# Altium footprint library PCB_Library.PcbLib: 2 footprints
Each footprint in its own frame and in the unit in brackets; x right, y up, seen from the top. Pads: shape width x height; smd on the part's side, far side on the other; paste and mask are expansions set on the pad; w line width, h text height; cw(c..) or ccw(c..) is an arc to the next point about the centre after c.
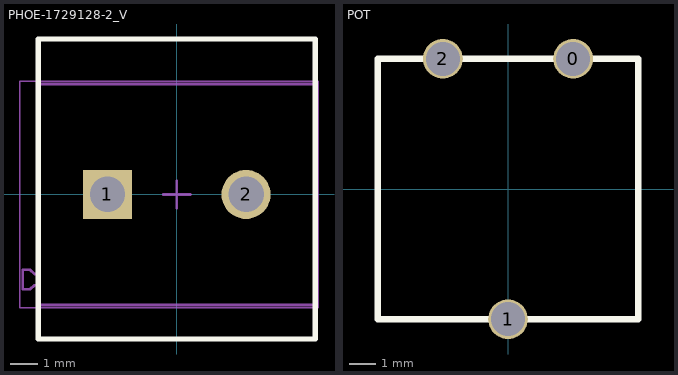
[diagram p0: the footprints below, top view; thin cyan lines are the x and y axes]

## PHOE-1729128-2_V [mm] "Receptacle, 2-Leads, Body 8.1x10.16mm, Pitch 5.08mm"
height 10.013
pads (2):
  rect 1.8x1.8 hole 1.3: 1(-2.54,0)
  round 1.8 hole 1.3: 2(2.54,0)
Top Overlay:
  lines w0.2: -5.08,-5.3 -5.08,5.7 5.08,5.7 5.08,-5.3 -5.08,-5.3
Mechanical 13:
  lines w0.1: -5.08,-3.327 -5.209,-3.327 -5.387,-3.477 -5.65,-3.477 -5.65,-2.763 ; -5.08,-2.913 -5.209,-2.913 -5.387,-2.763 -5.65,-2.763 ; -5.65,-2.763 -5.65,-2.763 ; -5.08,-4.05 -5.08,4.05 -2.54,4.05 2.54,4.05 5.08,4.05 5.08,-4.05 2.54,-4.05 -2.54,-4.05 -5.08,-4.05
Mechanical 15:
  lines w0.05: -5.75,-4.15 5.18,-4.15 5.18,4.15 -5.75,4.15 -5.75,-4.15
  lines w0.1: -0.5,0 0.5,0 ; 0,-0.5 0,0.5
3D body "1729128.stp": height 10.01, standoff -3.49, extent -5.65,-4.05 5.08,4.05

## POT [mm]
pads (3):
  round 1.524 hole 1.3 mask+0.5: 0(2.5,5) 1(0,-5) 2(-2.5,5)
Top Overlay:
  lines w0.254: -5,-5 -5,5 5,5 5,-5 -5,-5
3D body "POT.STEP": height 6.16, standoff -3.99, extent -5,-5.1 5,5.1